# Altium footprint library 传感器fsc.PcbLib: 14 footprints
Each footprint in its own frame and in the unit in brackets; x right, y up, seen from the top. Pads: shape width x height; smd on the part's side, far side on the other; paste and mask are expansions set on the pad; w line width, h text height; cw(c..) or ccw(c..) is an arc to the next point about the centre after c.
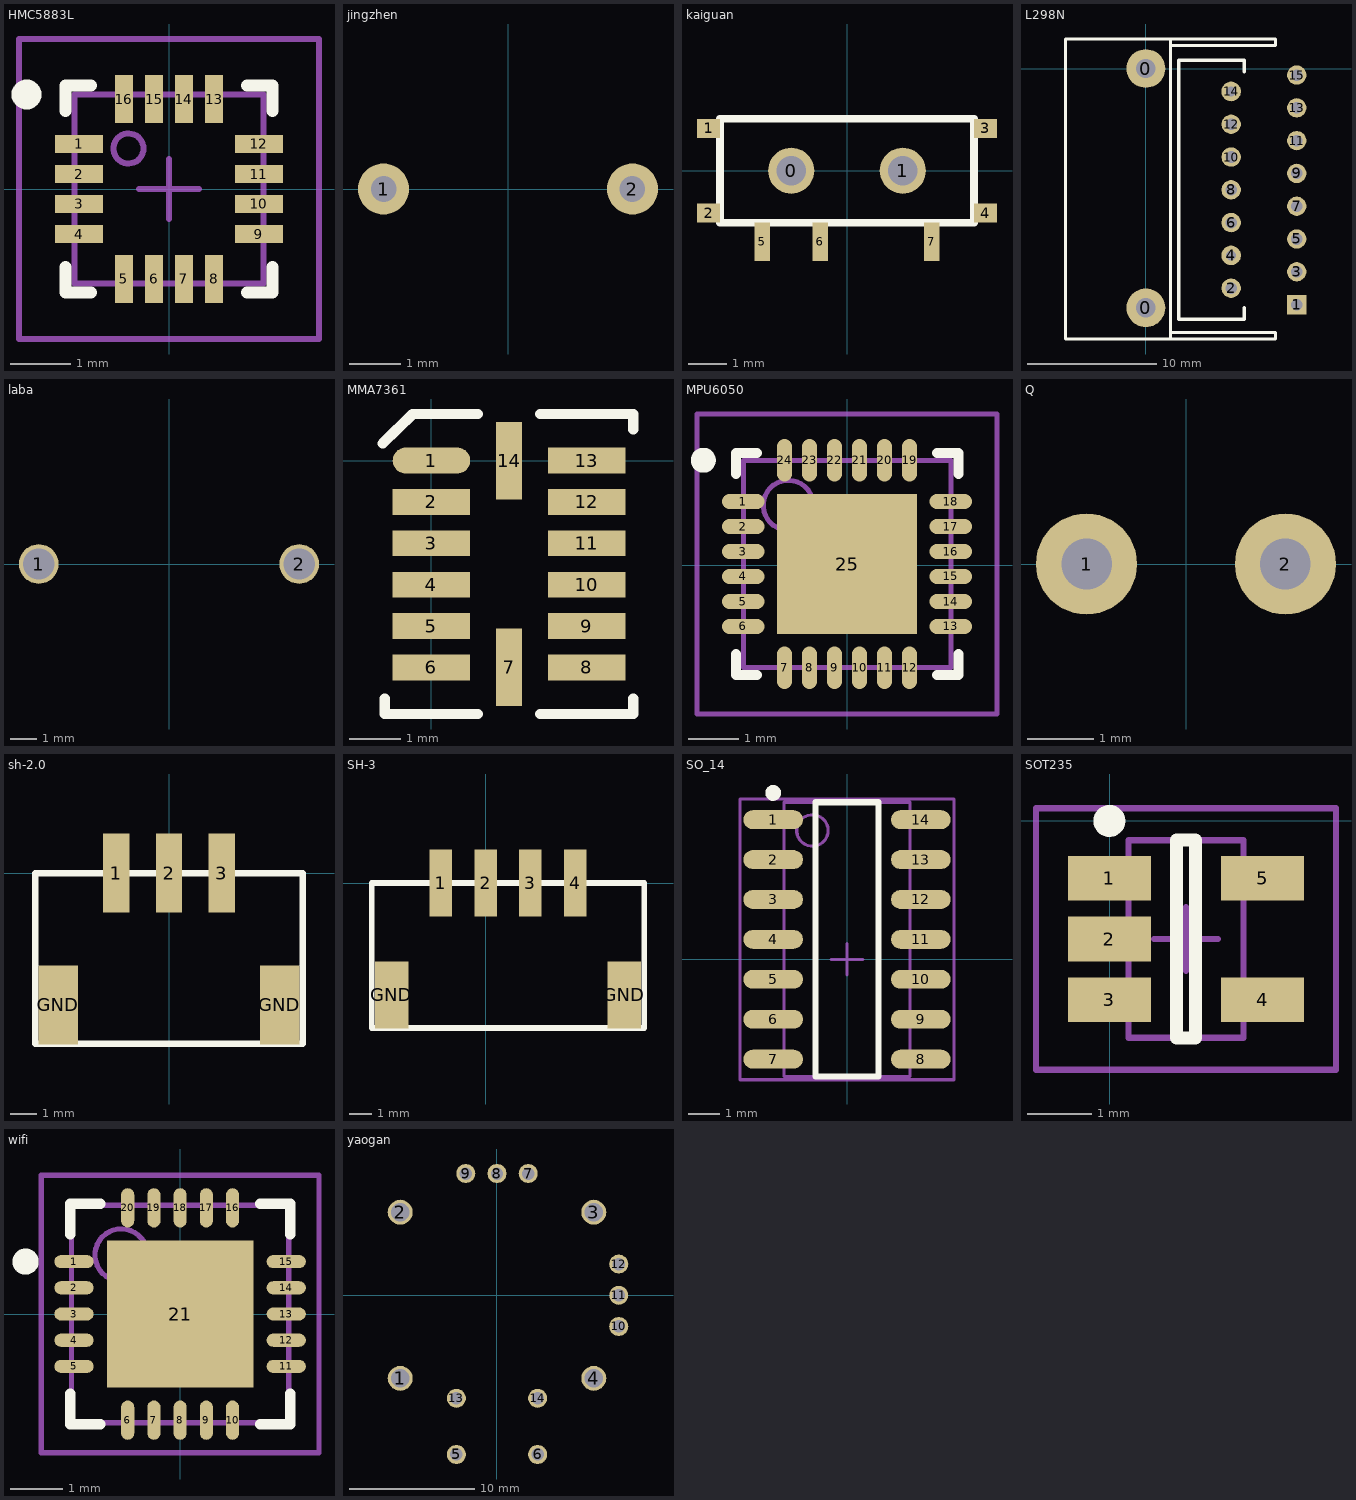
[diagram p0: the footprints below, top view; thin cyan lines are the x and y axes]

## HMC5883L [mm]
pads (16):
  rect 0.8x0.3 smd: 1(-1.5,0.75) 2(-1.5,0.25) 3(-1.5,-0.25) 4(-1.5,-0.75) 9(1.5,-0.75) 10(1.5,-0.25) 11(1.5,0.25) 12(1.5,0.75)
  rect 0.3x0.8 smd: 5(-0.75,-1.5) 6(-0.25,-1.5) 7(0.25,-1.5) 8(0.75,-1.5) 13(0.75,1.5) 14(0.25,1.5) 15(-0.25,1.5) 16(-0.75,1.5)
Top Overlay:
  circle w0.25: c-2.375,1.575 r0.125
  lines w0.2: -1.725,-1.3 -1.725,-1.725 -1.3,-1.725 ; -1.725,1.3 -1.725,1.725 -1.3,1.725 ; 1.3,-1.725 1.725,-1.725 1.725,-1.3 ; 1.3,1.725 1.725,1.725 1.725,1.3
Mechanical 13:
  circle w0.1: c-0.675,0.675 r0.25
  lines w0.1: -1.575,-1.575 -1.575,1.575 1.575,1.575 1.575,-1.575 -1.575,-1.575
Mechanical 15:
  lines w0.1: -0.5,0 0.5,0 ; 0,-0.5 0,0.5 ; -2.5,-2.5 -2.5,2.5 2.5,2.5 2.5,-2.5 -2.5,-2.5
3D body: height 1, standoff 0, extent -1.626,-1.626 1.626,1.626

## jingzhen [mm]
pads (2):
  round 1 hole 0.5: 1(-2.44,0) 2(2.44,0)

## kaiguan [mm]
pads (9):
  round 1.2 hole 0.762: 0(-1.45,0) 1(1.45,0)
  rect 0.6x0.5 smd: 1(-3.6,1.1) 2(-3.6,-1.1) 3(3.6,1.1) 4(3.6,-1.1)
  rect 0.4x1 smd: 5(-2.2,-1.85) 6(-0.7,-1.85) 7(2.2,-1.85)
Top Overlay:
  lines w0.2: -3.3,-1.35 -3.3,1.35 3.3,1.35 3.3,-1.35 -3.3,-1.35

## L298N [mm]
pads (17):
  round 3 hole 1.5: 0(0,-18.542) 0(0,0)
  rect 1.5x1.5 hole 0.9: 1(11.684,-18.288)
  round 1.5 hole 0.9: 2(6.604,-17.018) 3(11.684,-15.748) 5(11.684,-13.208) 6(6.604,-11.938) 7(11.684,-10.668) 8(6.604,-9.398) 9(11.684,-8.128) 10(6.604,-6.858) 11(11.684,-5.588) 12(6.604,-4.318) 13(11.684,-3.048) 15(11.684,-0.508)
  round 1.524 hole 0.762: 4(6.604,-14.478) 14(6.604,-1.778)
Top Overlay:
  lines w0.254: 1.905,-20.447 10.033,-20.447 10.033,-20.955 1.905,-20.955 ; 1.905,1.778 10.033,1.778 10.033,2.286 9.779,2.286 1.905,2.286 ; 7.62,-18.542 7.62,-19.431 4.953,-19.431 2.54,-19.431 2.54,0.635 4.953,0.635 7.62,0.635 7.62,-0.254 ; 1.905,-20.955 -6.223,-20.955 -6.223,2.286 1.905,2.286 ; 1.905,-20.955 1.905,-19.812 1.905,-18.796 1.905,2.286

## laba [mm]
pads (2):
  round 1.524 hole 1.2: 1(-5,0) 2(5,0)

## MMA7361 [mm]
pads (14):
  oval 1.5x0.5 smd: 1(0,0)
  rect 1.5x0.5 smd: 2(0,-0.8) 3(0,-1.6) 4(0,-2.4) 5(0,-3.2) 6(0,-4) 8(3,-4) 9(3,-3.2) 10(3,-2.4) 11(3,-1.6) 12(3,-0.8) 13(3,0)
  rect 0.5x1.5 smd: 7(1.5,-4) 14(1.5,0)
Top Overlay:
  lines w0.2: -0.94,0.33 -0.36,0.9 0.9,0.9 ; -0.9,-4.6 -0.9,-4.9 0.9,-4.9 ; 2.1,-4.9 3.9,-4.9 3.9,-4.6 ; 2.1,0.9 3.9,0.9 3.9,0.6

## MPU6050 [mm]
pads (25):
  oval 0.85x0.3 smd: 1(-2.075,1.275) 2(-2.075,0.775) 3(-2.075,0.275) 4(-2.075,-0.225) 5(-2.075,-0.725) 6(-2.075,-1.225) 13(2.075,-1.225) 14(2.075,-0.725) 15(2.075,-0.225) 16(2.075,0.275) 17(2.075,0.775) 18(2.075,1.275)
  oval 0.3x0.85 smd: 7(-1.25,-2.05) 8(-0.75,-2.05) 9(-0.25,-2.05) 10(0.25,-2.05) 11(0.75,-2.05) 12(1.25,-2.05) 19(1.25,2.1) 20(0.75,2.1) 21(0.25,2.1) 22(-0.25,2.1) 23(-0.75,2.1) 24(-1.25,2.1)
  rect 2.8x2.8 smd: 25(0,0.025)
Top Overlay:
  circle w0.25: c-2.875,2.1 r0.125
  lines w0.2: -2.225,-1.775 -2.225,-2.2 -1.8,-2.2 ; -2.225,1.825 -2.225,2.25 -1.8,2.25 ; 1.8,-2.2 2.225,-2.2 2.225,-1.775 ; 1.8,2.25 2.225,2.25 2.225,1.825
Mechanical 13:
  circle w0.1: c-1.175,1.2 r0.5
  lines w0.1: -2.075,-2.05 -2.075,2.1 2.075,2.1 2.075,-2.05 -2.075,-2.05
Mechanical 15:
  lines w0.1: -0.5,0.025 0.5,0.025 ; 0,-0.475 0,0.525 ; -3,-2.975 -3,3.025 3,3.025 3,-2.975 -3,-2.975
3D body: height 1, standoff 0, extent -2.075,-2.05 2.075,2.1

## Q [mil]
pads (2):
  round 60 hole 30: 1(-59.06,0) 2(59.06,0)

## sh-2.0 [mm]
pads (5):
  rect 1x3 smd: 1(-2,0) 2(0,0) 3(2,0)
  rect 1.5x3 smd: GND(-4.2,-5) GND(4.2,-5)
Top Overlay:
  lines w0.254: -5.08,-6.477 5.08,-6.477 5.08,0 -5.08,0 -5.08,-6.477

## SH-3 [mm]
pads (6):
  rect 1x3 smd: 1(-2,0) 2(0,0) 3(2,0) 4(4,0)
  rect 1.5x3 smd: GND(-4.2,-5) GND(6.2,-5)
Top Overlay:
  lines w0.254: -5.08,-6.477 7.08,-6.477 7.08,0 -5.08,0 -5.08,-6.477

## SO_14 [mm]
pads (14):
  oval 1.9x0.6 smd: 1(-2.35,4.445) 2(-2.35,3.175) 3(-2.35,1.905) 4(-2.35,0.635) 5(-2.35,-0.635) 6(-2.35,-1.905) 7(-2.35,-3.175) 8(2.35,-3.175) 9(2.35,-1.905) 10(2.35,-0.635) 11(2.35,0.635) 12(2.35,1.905) 13(2.35,3.175) 14(2.35,4.445)
Top Overlay:
  circle w0.25: c-2.35,5.295 r0.125
  lines w0.2: -1,-3.73 1,-3.73 1,5 -1,5 -1,-3.73
Mechanical 13:
  circle w0.1: c-1.1,4.1 r0.5
  lines w0.1: -2,-3.73 2,-3.73 2,5 -2,5 -2,-3.73
Mechanical 15:
  lines w0.1: -0.5,0 0.5,0 ; 0,-0.5 0,0.5 ; -3.4,-3.83 3.4,-3.83 3.4,5.1 -3.4,5.1 -3.4,-3.83
3D body: height 1.75, standoff 0, extent -2,-3.708 2.007,5

## SOT235 [mm]
pads (5):
  rect 1.3x0.7 smd: 1(-0.006,-0.904) 2(-0.006,-1.854) 3(-0.006,-2.804) 4(2.394,-2.804) 5(2.394,-0.904)
Top Overlay:
  circle w0.25: c-0.006,-0.004 r0.125
  lines w0.2: 1.044,-3.404 1.344,-3.404 1.344,-0.304 1.044,-0.304 1.044,-3.404
Mechanical 13:
  lines w0.1: 0.294,-3.404 0.294,-0.304 2.094,-0.304 2.094,-3.404 0.294,-3.404
Mechanical 15:
  lines w0.1: 0.694,-1.854 1.694,-1.854 ; 1.194,-2.354 1.194,-1.354 ; -1.156,-3.904 -1.156,0.196 3.544,0.196 3.544,-3.904 -1.156,-3.904
3D body: height 1.45, standoff 0, extent 0.294,-3.404 2.094,-0.304

## wifi [mm]
pads (21):
  oval 0.75x0.25 smd: 1(-2.025,1) 2(-2.025,0.5) 3(-2.025,0) 4(-2.025,-0.5) 5(-2.025,-1) 11(2.025,-1) 12(2.025,-0.5) 13(2.025,0) 14(2.025,0.5) 15(2.025,1)
  oval 0.25x0.75 smd: 6(-1,-2.025) 7(-0.5,-2.025) 8(0,-2.025) 9(0.5,-2.025) 10(1,-2.025) 16(1,2.025) 17(0.5,2.025) 18(0,2.025) 19(-0.5,2.025) 20(-1,2.025)
  rect 2.8x2.8 smd: 21(0,0)
Top Overlay:
  circle w0.25: c-2.95,1 r0.125
  lines w0.2: -2.1,-1.525 -2.1,-2.1 -1.525,-2.1 ; -2.1,1.525 -2.1,2.1 -1.525,2.1 ; 1.525,-2.1 2.1,-2.1 2.1,-1.525 ; 1.525,2.1 2.1,2.1 2.1,1.525
Mechanical 13:
  circle w0.1: c-1.125,1.125 r0.5
  lines w0.1: -2.075,-2.075 -2.075,2.075 2.075,2.075 2.075,-2.075 -2.075,-2.075
Mechanical 15:
  lines w0.1: -0.5,0 0.5,0 ; 0,-0.5 0,0.5 ; -2.65,-2.65 -2.65,2.65 2.65,2.65 2.65,-2.65 -2.65,-2.65
3D body: height 0.95, standoff 0, extent -2.075,-2.075 2.075,2.075

## yaogan [mm]
pads (14):
  round 2 hole 1.5: 1(-7.75,-6.65) 2(-7.75,6.65) 3(7.75,6.65) 4(7.75,-6.65)
  round 1.524 hole 1: 5(-3.25,-12.75) 6(3.25,-12.75) 7(2.5,9.75) 8(0,9.75) 9(-2.5,9.75) 10(9.75,-2.5) 11(9.75,0) 12(9.75,2.5) 13(-3.25,-8.25) 14(3.25,-8.25)